# EAGLE library part 7R-P (library resistor-dil)
DIL RESISTOR
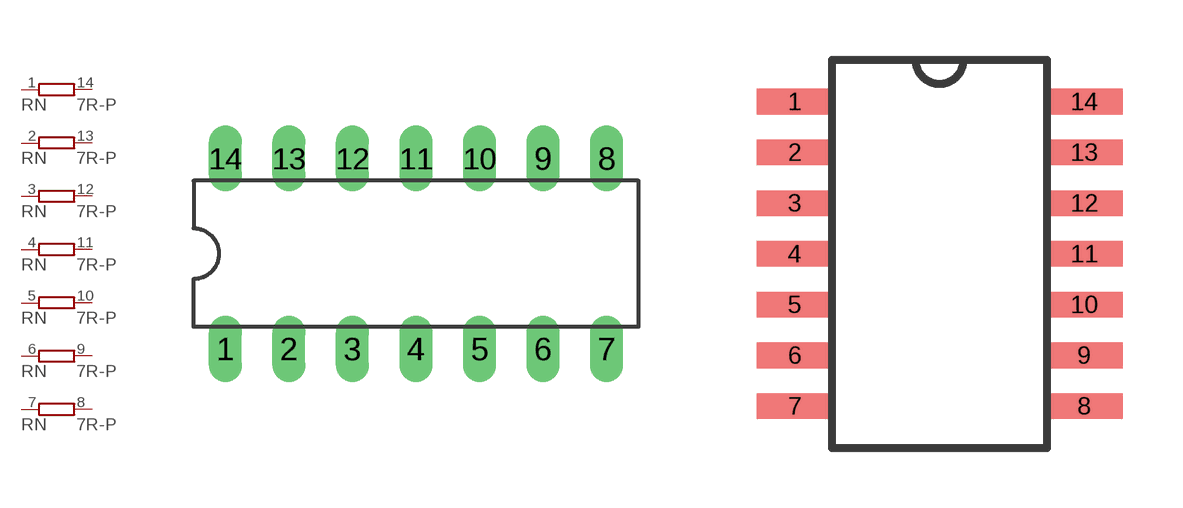
[diagram p8: symbol with the pads of DIL14; footprints DIL14, SOMC14]

Designator prefix RN; gates A=R1PV B=R1PV C=R1PV D=R1PV E=R1PV F=R1PV G=R1PV

## 7R-P (OC_FARNELL: unknown; OC_NEWARK: unknown)  [DIL14]
1  A:1  pas
2  B:1  pas
3  C:1  pas
4  D:1  pas
5  E:1  pas
6  F:1  pas
7  G:1  pas
8  G:2  pas
9  F:2  pas
10  E:2  pas
11  D:2  pas
12  C:2  pas
13  B:2  pas
14  A:2  pas

## 7R-PSOMC (OC_FARNELL: unknown; OC_NEWARK: unknown)  [SOMC14]
Pads as for DIL14

## Footprint DIL14 (pad centres in mm)
Dual In Line Package
drill 0.813 long: 1 -7.62,-3.81; 2 -5.08,-3.81; 3 -2.54,-3.81; 4 0,-3.81; 5 2.54,-3.81; 6 5.08,-3.81; 7 7.62,-3.81; 8 7.62,3.81; 9 5.08,3.81; 10 2.54,3.81; 11 0,3.81; 12 -2.54,3.81; 13 -5.08,3.81; 14 -7.62,3.81

## Footprint SOMC14 (pad centres in mm)
SOMC 14 Auto generated by make-symbol-device-package-bsdl.ulp Rev. 12 Source: www.vishay.com/docs/31508/somc.pdf
smd 1.91 x 0.64: 1 -3.62,3.81; 2 -3.62,2.54; 3 -3.62,1.27; 4 -3.62,0; 5 -3.62,-1.27; 6 -3.62,-2.54; 7 -3.62,-3.81; 8 3.62,-3.81; 9 3.62,-2.54; 10 3.62,-1.27; 11 3.62,0; 12 3.62,1.27; 13 3.62,2.54; 14 3.62,3.81